# EAGLE library part 687133144921 (library Wuerth_Elektronik_eiCan_03_ZIF_Connectors_Flat_Flexible_Cable)
WR-FPC 0.5mm SMT ZIF Horizontal Top Contact Low Profile 1.2mm Height, 33 Pins
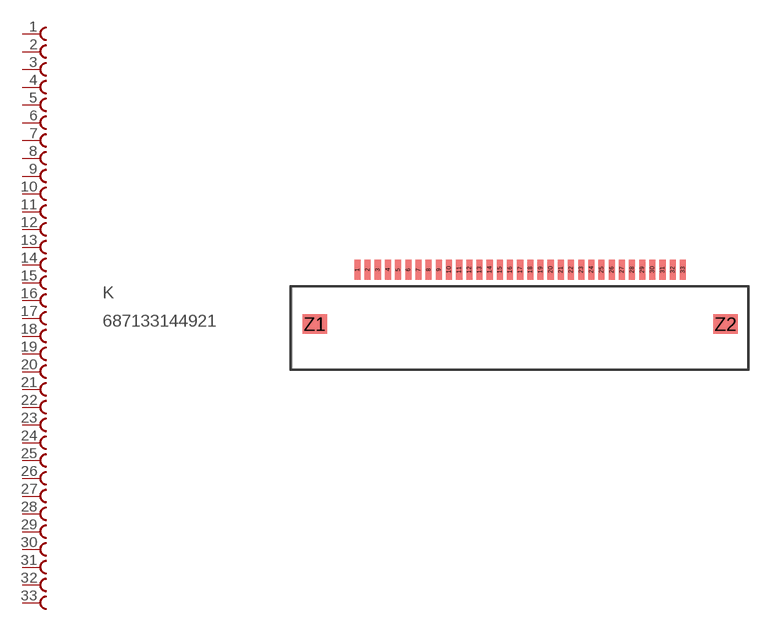
[diagram p104: symbol with the pads of 687133144921; footprint 687133144921]

Designator prefix K

## 687133144921  [687133144921]
1  1  pas
2  2  pas
3  3  pas
4  4  pas
5  5  pas
6  6  pas
7  7  pas
8  8  pas
9  9  pas
10  10  pas
11  11  pas
12  12  pas
13  13  pas
14  14  pas
15  15  pas
16  16  pas
17  17  pas
18  18  pas
19  19  pas
20  20  pas
21  21  pas
22  22  pas
23  23  pas
24  24  pas
25  25  pas
26  26  pas
27  27  pas
28  28  pas
29  29  pas
30  30  pas
31  31  pas
32  32  pas
33  33  pas

## Footprint 687133144921 (pad centres in mm)
WR-FPC 0.5mm SMT ZIF Horizontal Top Contact Low Profile 1.2mm Height, 33 Pins
smd 0.3 x 1: 1 -8,4.925; 2 -7.5,4.925; 3 -7,4.925; 4 -6.5,4.925; 5 -6,4.925; 6 -5.5,4.925; 7 -5,4.925; 8 -4.5,4.925; 9 -4,4.925; 10 -3.5,4.925; 11 -3,4.925; 12 -2.5,4.925; 13 -2,4.925; 14 -1.5,4.925; 15 -1,4.925; 16 -0.5,4.925; 17 0,4.925; 18 0.5,4.925; 19 1,4.925; 20 1.5,4.925; 21 2,4.925; 22 2.5,4.925; 23 3,4.925; 24 3.5,4.925; 25 4,4.925; 26 4.5,4.925; 27 5,4.925; 28 5.5,4.925; 29 6,4.925; 30 6.5,4.925; 31 7,4.925; 32 7.5,4.925; 33 8,4.925
smd 1.2 x 0.95: Z1 -10.1,2.25; Z2 10.1,2.25